# Altium footprint library PCB - CONNECTOR - HARWIN - HARWIN M20-9960545.PcbLib: 1 footprints
Each footprint in its own frame and in the unit in brackets; x right, y up, seen from the top. Pads: shape width x height; smd on the part's side, far side on the other; paste and mask are expansions set on the pad; w line width, h text height; cw(c..) or ccw(c..) is an arc to the next point about the centre after c.
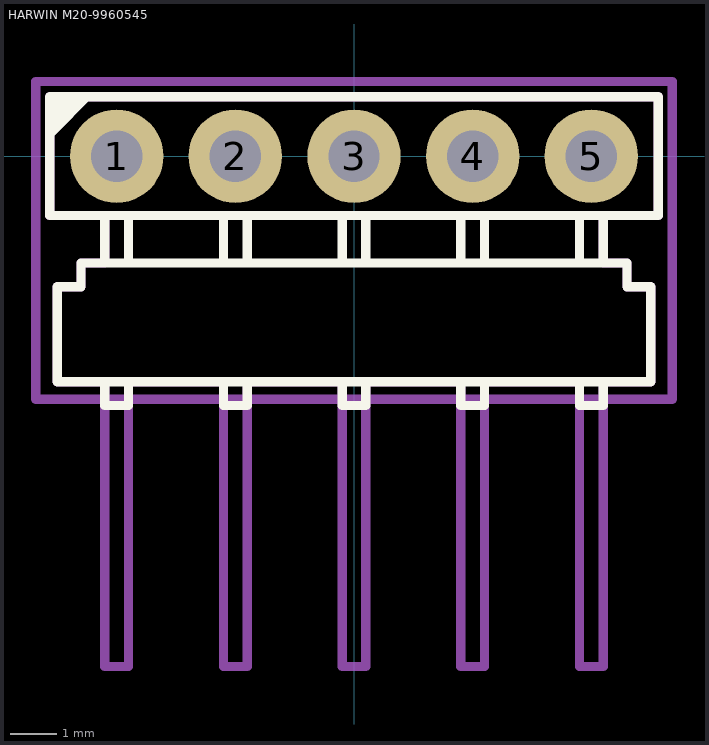
[diagram p0: the footprint, top view; thin cyan lines are the x and y axes]

## HARWIN M20-9960545 [mm] "2.54mm DIL PC TAIL PIN HEADER ASSEMBLY"
height 2.54
pads (5):
  round 2 hole 1.1: 1(-5.08,0) 2(-2.54,0) 3(0,0) 4(2.54,0) 5(5.08,0)
Top Overlay:
  region: -6.46,1.3 -6.46,0.4 -5.56,1.3
  lines w0.2: -5.334,-4.826 -5.334,-5.334 -4.826,-5.334 -4.826,-4.826 ; -5.334,-2.286 -5.334,-1.27 ; -4.826,-2.286 -4.826,-1.27 ; -2.794,-4.826 -2.794,-5.334 -2.286,-5.334 -2.286,-4.826 ; -2.794,-2.286 -2.794,-1.27 ; -2.286,-2.286 -2.286,-1.27 ; -0.254,-4.826 -0.254,-5.334 0.254,-5.334 0.254,-4.826 ; -0.254,-2.286 -0.254,-1.27 ; 0.254,-2.286 0.254,-1.27 ; 2.286,-4.826 2.286,-5.334 2.794,-5.334 2.794,-4.826 ; 2.286,-2.286 2.286,-1.27 ; 2.794,-2.286 2.794,-1.27 ; 4.826,-4.826 4.826,-5.334 5.334,-5.334 5.334,-4.826 ; 4.826,-2.286 4.826,-1.27 ; 5.334,-2.286 5.334,-1.27 ; -6.51,-1.27 6.51,-1.27 6.51,1.27 -6.51,1.27 -6.51,-1.27 ; -6.35,-4.826 6.35,-4.826 6.35,-2.794 5.842,-2.794 5.842,-2.286 -5.842,-2.286 -5.842,-2.794 -6.35,-2.794 -6.35,-4.826
Top Assembly:
  lines w0.2: -5.334,-1.27 -5.334,-2.286 -5.842,-2.286 -5.842,-2.794 -6.35,-2.794 -6.35,-4.826 -5.334,-4.826 -5.334,-10.922 -4.826,-10.922 -4.826,-4.826 -2.794,-4.826 -2.794,-10.922 -2.286,-10.922 -2.286,-4.826 -0.254,-4.826 -0.254,-10.922 0.254,-10.922 0.254,-4.826 2.286,-4.826 2.286,-10.922 2.794,-10.922 2.794,-4.826 4.826,-4.826 4.826,-10.922 5.334,-10.922 5.334,-4.826 6.35,-4.826 6.35,-2.794 5.842,-2.794 5.842,-2.286 5.334,-2.286 5.334,-1.27 ; -0.5,0 0.5,0 ; 0,-0.5 0,0.5 ; -6.51,-1.27 6.51,-1.27 6.51,1.27 -6.51,1.27 -6.51,-1.27
Top Courtyard (Mech15):
  lines w0.2: -6.81,-5.2 -6.81,1.6 6.81,1.6 6.81,-5.2 -6.81,-5.2
3D body "HARWIN M20-9960545.step": height 2.54, standoff -3, extent -6.35,-10.9 6.35,0.32